# Altium footprint library 迷你打印机.PcbLib: 25 footprints (part 2 of 2)
Each footprint in its own frame and in the unit in brackets; x right, y up, seen from the top. Pads: shape width x height; smd on the part's side, far side on the other; paste and mask are expansions set on the pad; w line width, h text height; cw(c..) or ccw(c..) is an arc to the next point about the centre after c.
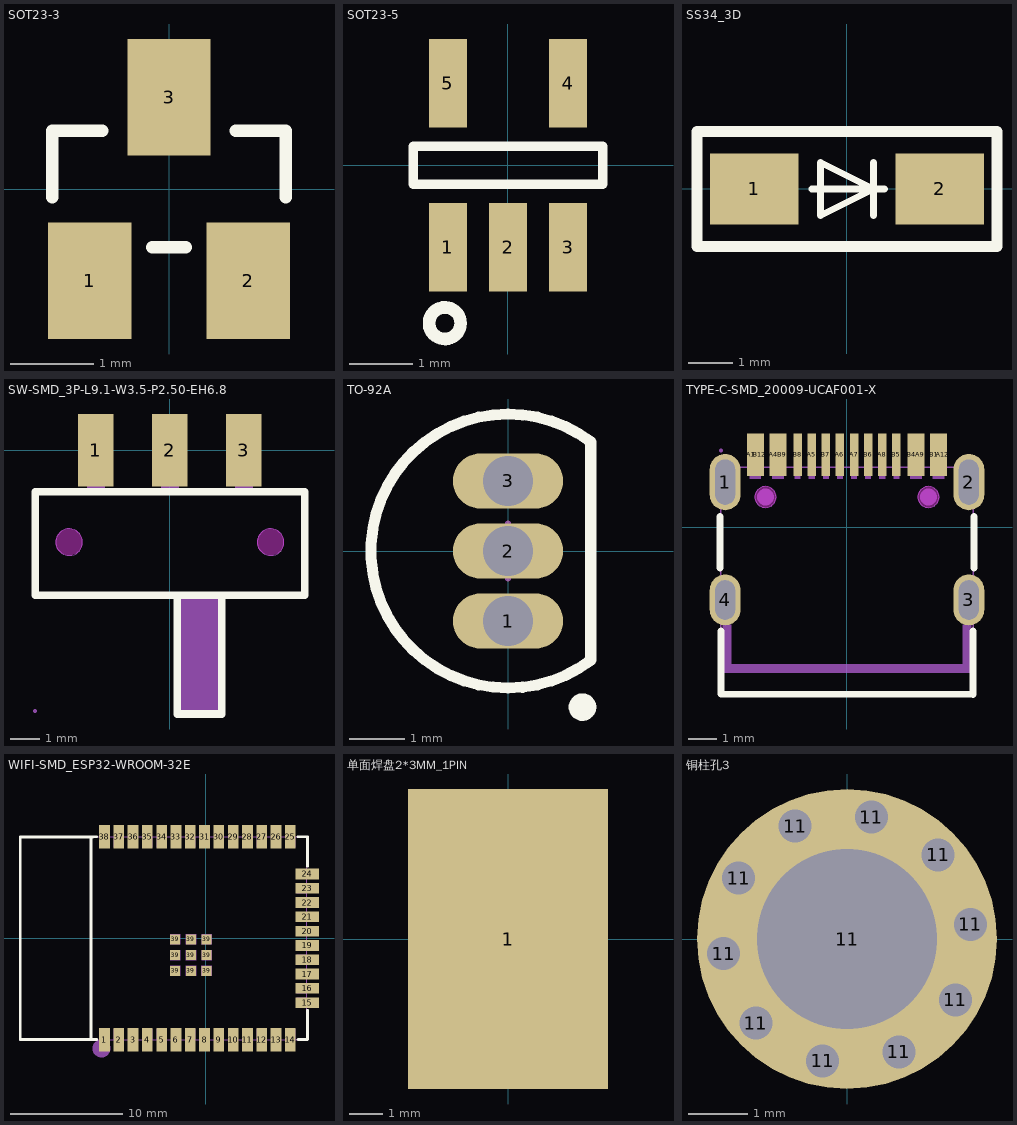
[diagram p1: the footprints below, top view; thin cyan lines are the x and y axes]

## SOT23-3 [mm]
pads (3):
  rect 1x1.4 smd: 1(-0.95,-1.1) 2(0.95,-1.1) 3(0,1.1)
Top Overlay:
  lines w0.15: -1.4,-0.1 -1.4,0.7 -0.8,0.7 ; -0.2,-0.7 0.2,-0.7 ; 0.8,0.7 1.4,0.7 1.4,-0.1

## SOT23-5 [mm]
pads (5):
  rect 0.6x1.4 smd: 1(-0.95,-1.3) 2(0,-1.3) 3(0.95,-1.3) 4(0.95,1.3) 5(-0.95,1.3)
Top Overlay:
  circle w0.2: c-1,-2.5 r0.25
  lines w0.15: -1.5,-0.3 1.5,-0.3 1.5,0.3 -1.5,0.3 -1.5,-0.3

## SS34_3D [mm]
height 2.5
pads (2):
  rect 2x1.6 smd: 1(-2.1,0) 2(2.1,0)
Top Overlay:
  lines w0.152: -0.8,0 0.85,0 ; 0.6,-0.6 0.6,0 ; 0.6,0.6 0.6,0 ; 0.6,0 -0.6,-0.6 -0.6,0 -0.6,0.6 0.6,0
  lines w0.254: -3.4,-1.3 3.4,-1.3 3.4,1.3 -3.4,1.3 -3.4,-1.3
3D body "User Library-DO-214AC_SMA.step": height 2.15, standoff -0.05, extent -2.46,-1.36 2.54,1.34

## SW-SMD_3P-L9.1-W3.5-P2.50-EH6.8 [mm]
pads (3):
  rect 1.2x2.45 smd: 1(-2.5,0) 2(0,0) 3(2.5,0)
Top Overlay:
  lines w0.254: -4.55,-4.9 4.55,-4.9 4.55,-1.4 -4.55,-1.4 -4.55,-4.9 ; 0.25,-8.9 1.75,-8.9 1.75,-4.9 0.25,-4.9 0.25,-8.9
Keep-Out Layer:
  board cut-out: -2.95,-3.1 -2.95,-3.011 -3.019,-2.845 -3.145,-2.719 -3.311,-2.65 -3.49,-2.65 -3.655,-2.719 -3.782,-2.845 -3.85,-3.011 -3.85,-3.1 -3.85,-3.19 -3.782,-3.355 -3.655,-3.482 -3.49,-3.55 -3.311,-3.55 -3.145,-3.482 -3.019,-3.355 -2.95,-3.19 -2.95,-3.1
  board cut-out: 3.85,-3.1 3.85,-3.011 3.781,-2.845 3.655,-2.719 3.489,-2.65 3.31,-2.65 3.145,-2.719 3.018,-2.845 2.95,-3.011 2.95,-3.1 2.95,-3.19 3.018,-3.355 3.145,-3.482 3.31,-3.55 3.489,-3.55 3.655,-3.482 3.781,-3.355 3.85,-3.19 3.85,-3.1
Mechanical 1:
  circle w0.005: c-3.4,-3.1 r0.45
  circle w0.005: c3.4,-3.1 r0.45
Mechanical 6:
  region: 0.3,-4.9 1.7,-4.9 1.8,-4.9 1.8,-8.9 0.3,-8.9
Mechanical 15:
  region: -4.49,-8.8 -4.49,-8.775 -4.525,-8.74 -4.575,-8.74 -4.61,-8.775 -4.61,-8.8 -4.61,-8.825 -4.575,-8.86 -4.525,-8.86 -4.49,-8.825 -4.49,-8.8
  region: -2.2,0.8 -2.2,-0.8 -2.8,-0.8 -2.8,0.8
  region: 2.8,0.8 2.8,-0.8 2.2,-0.8 2.2,0.8
  region: 0.3,0.8 0.3,-0.8 -0.3,-0.8 -0.3,0.8
  region: 2.8,-0.79 2.8,-1.41 2.205,-1.41 2.205,-1.4 2.205,-0.79
  region: 0.3,-0.79 0.3,-1.41 -0.295,-1.41 -0.295,-1.4 -0.295,-0.79
  region: -2.2,-0.79 -2.2,-1.41 -2.795,-1.41 -2.795,-1.4 -2.795,-0.79
  lines w0.051: -4.55,-4.9 -4.55,-1.4 4.55,-1.4 4.55,-4.9 1.75,-4.9 1.75,-8.8 0.25,-8.8 0.25,-4.9 -4.55,-4.9
Multi-Layer keep-out:
  region: -2.95,-3.1 -2.95,-3.011 -3.019,-2.845 -3.145,-2.719 -3.311,-2.65 -3.49,-2.65 -3.655,-2.719 -3.782,-2.845 -3.85,-3.011 -3.85,-3.1 -3.85,-3.19 -3.782,-3.355 -3.655,-3.482 -3.49,-3.55 -3.311,-3.55 -3.145,-3.482 -3.019,-3.355 -2.95,-3.19 -2.95,-3.1
  region: 3.85,-3.1 3.85,-3.011 3.781,-2.845 3.655,-2.719 3.489,-2.65 3.31,-2.65 3.145,-2.719 3.018,-2.845 2.95,-3.011 2.95,-3.1 2.95,-3.19 3.018,-3.355 3.145,-3.482 3.31,-3.55 3.489,-3.55 3.655,-3.482 3.781,-3.355 3.85,-3.19 3.85,-3.1

## TO-92A [mm] "TO, Flat Index; 3 In-Line, Axial Leads; Body Dia. 4.5mm; Leads 0.51 x 0.48 mm (max)"
height 6.86
pads (3):
  oval 2x1 hole 0.9: 1(0,-1.27) 2(0,0) 3(0,1.27)
Top Overlay:
  circle w0.25: c1.35,-2.83 r0.125
  lines w0.2: 1.5,-1.98 cw(c0,0) 1.5,1.98 1.5,-1.98
Mechanical 13:
  lines w0.1: 1.5,-1.98 cw(c0,0) 1.5,1.98 1.5,-1.98
Mechanical 15:
  lines w0.1: -0.5,0 0.5,0 ; 0,-0.5 0,0.5
3D body: height 6.86, standoff 2.2, extent -2.485,-2.495 1.501,2.495

## TYPE-C-SMD_20009-UCAF001-X [mm]
pads (20):
  oval 1.1x2 hole 0.7 slot 1.6 at 90 deg: 1(-4.32,1.606) 2(4.32,1.606)
  oval 1.1x1.8 hole 0.7 slot 1.4 at 90 deg: 3(4.32,-2.574) 4(-4.32,-2.574)
  rect 0.3x1.5 smd paste-100 mask+0.051: A1(-3.4,2.573) A4(-2.6,2.573) A5(-1.25,2.573) A6(-0.25,2.573) A7(0.25,2.573) A8(1.25,2.574) A9(2.6,2.573) A12(3.4,2.573) B1(3.1,2.573) B4(2.3,2.573) B5(1.75,2.573) B6(0.75,2.573) B7(-0.75,2.573) B8(-1.75,2.574) B9(-2.3,2.573) B12(-3.1,2.573)
Top Overlay:
  lines w0.254: -4.5,-1.443 -4.5,0.375 ; -4.47,-3.674 -4.47,-5.911 4.47,-5.924 4.47,-3.674 ; 4.5,-1.443 4.5,0.375
Top Paste:
  drawing of 16 lines, arcs and shapes, not listed
Keep-Out Layer:
  board cut-out: -2.515,1.076 -2.515,1.151 -2.572,1.289 -2.678,1.394 -2.815,1.451 -2.965,1.451 -3.103,1.394 -3.208,1.289 -3.265,1.151 -3.265,1.076 -3.265,1.001 -3.208,0.864 -3.103,0.758 -2.965,0.701 -2.815,0.701 -2.678,0.758 -2.572,0.864 -2.515,1.001 -2.515,1.076
  board cut-out: 3.265,1.076 3.265,1.151 3.208,1.289 3.102,1.394 2.965,1.451 2.815,1.451 2.677,1.394 2.572,1.289 2.515,1.151 2.515,1.076 2.515,1.001 2.572,0.864 2.677,0.758 2.815,0.701 2.965,0.701 3.102,0.758 3.208,0.864 3.265,1.001 3.265,1.076
Mechanical 1:
  circle w0.005: c-2.89,1.076 r0.375
  circle w0.005: c2.89,1.076 r0.375
Mechanical 6:
  circle w0.3: c-2.89,1.076 r0.15
  circle w0.3: c2.89,1.076 r0.15
  region: -4.4,-3.45 -4.4,-5.15 4.4,-5.15 4.4,-3.45 4.1,-3.45 4.1,-4.85 -4.1,-4.85 -4.1,-3.45
Mechanical 15:
  region: -2.45,2.726 -2.25,2.726 -2.25,1.726 -2.45,1.726
  region: -2.65,2.726 -2.45,2.726 -2.45,1.726 -2.65,1.726
  region: 2.45,2.726 2.65,2.726 2.65,1.726 2.45,1.726
  region: 2.25,2.726 2.45,2.726 2.45,1.726 2.25,1.726
  region: 4.17,2.126 4.47,2.126 4.47,1.076 4.17,1.076
  region: -4.47,2.126 -4.17,2.126 -4.17,1.076 -4.47,1.076
  region: 4.17,-2.174 4.47,-2.174 4.47,-2.974 4.17,-2.974
  region: -4.47,-2.174 -4.17,-2.174 -4.17,-2.974 -4.47,-2.974
  region: 1.65,2.726 1.85,2.726 1.85,1.726 1.65,1.726
  region: 1.15,2.726 1.35,2.726 1.35,1.726 1.15,1.726
  region: 0.65,2.726 0.85,2.726 0.85,1.726 0.65,1.726
  region: 0.15,2.726 0.35,2.726 0.35,1.726 0.15,1.726
  region: -0.35,2.726 -0.15,2.726 -0.15,1.726 -0.35,1.726
  region: -0.85,2.726 -0.65,2.726 -0.65,1.726 -0.85,1.726
  region: -1.35,2.726 -1.15,2.726 -1.15,1.726 -1.35,1.726
  region: -1.85,2.726 -1.65,2.726 -1.65,1.726 -1.85,1.726
  region: -3.45,2.726 -3.25,2.726 -3.25,1.726 -3.45,1.726
  region: -3.25,2.726 -3.05,2.726 -3.05,1.726 -3.25,1.726
  region: 3.25,2.726 3.45,2.726 3.45,1.726 3.25,1.726
  region: 3.05,2.726 3.25,2.726 3.25,1.726 3.05,1.726
  region: -4.41,2.726 -4.411,2.751 -4.446,2.784 -4.494,2.784 -4.529,2.751 -4.53,2.726 -4.529,2.702 -4.494,2.668 -4.446,2.668 -4.411,2.702 -4.41,2.726
  lines w0.051: -4.47,-5.924 4.47,-5.924 4.47,2.126 -4.47,2.126 -4.47,-5.924
Multi-Layer keep-out:
  region: -2.515,1.076 -2.515,1.151 -2.572,1.289 -2.678,1.394 -2.815,1.451 -2.965,1.451 -3.103,1.394 -3.208,1.289 -3.265,1.151 -3.265,1.076 -3.265,1.001 -3.208,0.864 -3.103,0.758 -2.965,0.701 -2.815,0.701 -2.678,0.758 -2.572,0.864 -2.515,1.001 -2.515,1.076
  region: 3.265,1.076 3.265,1.151 3.208,1.289 3.102,1.394 2.965,1.451 2.815,1.451 2.677,1.394 2.572,1.289 2.515,1.151 2.515,1.076 2.515,1.001 2.572,0.864 2.677,0.758 2.815,0.701 2.965,0.701 3.102,0.758 3.208,0.864 3.265,1.001 3.265,1.076

## WIFI-SMD_ESP32-WROOM-32E [mm]
pads (47):
  rect 0.95x2.1 smd: 1(-9.003,-9) 2(-7.733,-9) 3(-6.463,-9) 4(-5.193,-9) 5(-3.923,-9) 6(-2.653,-9) 7(-1.383,-9) 8(-0.113,-9) 9(1.157,-9) 10(2.427,-9) 11(3.697,-9) 12(4.967,-9) 13(6.237,-9) 14(7.507,-9) 25(7.507,9) 26(6.237,9) 27(4.967,9) 28(3.697,9) 29(2.427,9) 30(1.157,9) 31(-0.113,9) 32(-1.383,9) 33(-2.653,9) 34(-3.923,9) 35(-5.193,9) 36(-6.463,9) 37(-7.733,9) 38(-9.003,9)
  rect 2.1x0.95 smd: 15(9.003,-5.715) 16(9.003,-4.445) 17(9.003,-3.175) 18(9.003,-1.905) 19(9.003,-0.635) 20(9.003,0.635) 21(9.003,1.905) 22(9.003,3.175) 23(9.003,4.445) 24(9.003,5.715)
  rect 0.9x0.9 smd: 39(-2.722,-2.9) 39(-2.722,-1.5) 39(-2.722,-0.1) 39(-1.322,-2.9) 39(-1.322,-1.5) 39(-1.322,-0.1) 39(0.078,-2.9) 39(0.078,-1.5) 39(0.078,-0.1)
Top Overlay:
  lines w0.254: -10.193,9 -10.193,-9 -9.684,-9 ; -10.193,9.017 -9.684,9.017 ; -10.027,-9 -16.477,-9 -16.477,9 -10.011,9 ; 8.189,-9 9.023,-9 9.023,-6.396 ; 8.189,9.017 9.023,9.017 9.023,6.396
Mechanical 6:
  circle w0.8: c-9.264,-9.779 r0.4
Mechanical 15:
  drawing of 52 lines, arcs and shapes, not listed

## 单面焊盘2*3MM_1PIN [mm]
height 2.5
pads (1):
  rect 6x9 smd: 1(0,0)

## 铜柱孔3 [mil]
height 35.43
pads (11):
  round 23 hole 22: 11(-82.21,-9.67) 11(-72.19,40.5) 11(-60.83,-56.14) 11(-34.6,75.2) 11(-16.21,-81.17) 11(16.21,81.17) 11(34.6,-75.2) 11(60.83,56.14) 11(72.19,-40.5) 11(82.21,9.67)
  round 200 hole 120: 11(0,0)